# Altium schematic symbol library Smart Smoke Detector.SchLib: 28 symbols
Pins are listed as number, name and electrical type; pins without a type are passive.

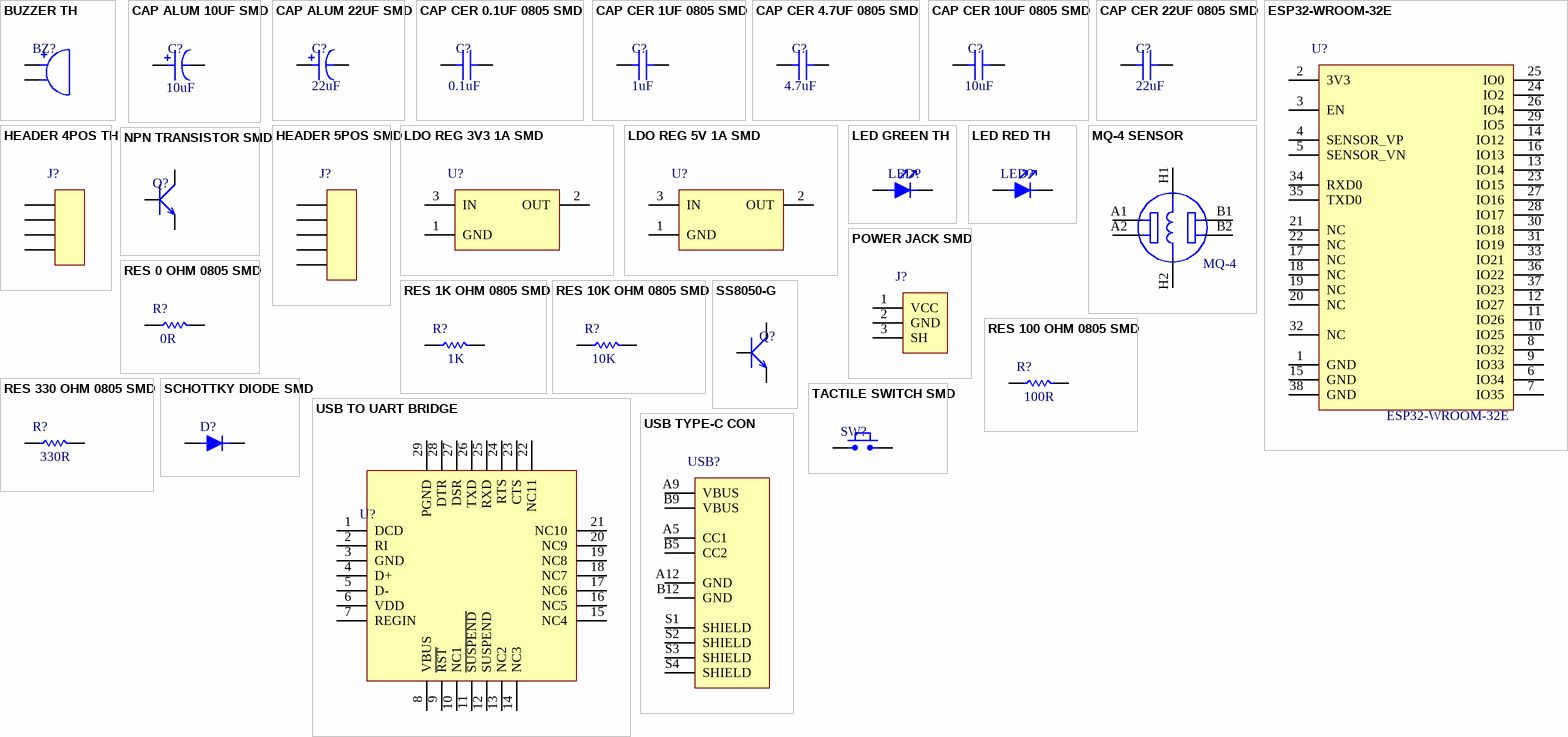
[diagram p0: symbols BUZZER TH to USB TYPE-C CON]

## BUZZER TH
designator BZ?, comment AI-1223-TWT-3V-2-R  (value not drawn)
BUZZER MAGNETIC 3V 12MM TH
footprint BUZZER
pins: 1, 2

## CAP ALUM 10UF SMD
designator C?, comment value 10uF  (hidden comment: 875105359001)
CAP ALUM 10UF 20% 16V SMD
footprint CAP ALUM 10UF
pins: 1, 2

## CAP ALUM 22UF SMD
designator C?, comment value 22uF  (hidden comment: A766EB226M1DLAE060)
CAP ALUM 22UF 20% 20V SMD
footprint CAP ALUM 22UF
pins: 1, 2

## CAP CER 0.1UF 0805 SMD
designator C?, comment value 0.1uF  (hidden comment: CC0805KRX7R9BB104)
CAP CER 0.1UF 50V X7R 0805
footprint CAP 0805
pins: 1, 2

## CAP CER 1UF 0805 SMD
designator C?, comment value 1uF  (hidden comment: CC0805KKX7R9BB105)
CAP CER 1UF 50V X7R 0805
footprint CAP 0805
pins: 1, 2

## CAP CER 4.7UF 0805 SMD
designator C?, comment value 4.7uF  (hidden comment: CC0805KKX5R9BB475)
CAP CER 4.7UF 50V X5R 0805
footprint CAP 0805
pins: 1, 2

## CAP CER 10UF 0805 SMD
designator C?, comment value 10uF  (hidden comment: CC0805KKX5R8BB106)
CAP CER 10UF 25V X5R 0805
footprint CAP 0805
pins: 1, 2

## CAP CER 22UF 0805 SMD
designator C?, comment value 22uF  (hidden comment: CC0805MKX5R8BB226)
CAP CER 22UF 25V X5R 0805
footprint CAP 0805
pins: 1, 2

## ESP32-WROOM-32E
designator U?, comment value ESP32-WROOM-32E  (hidden comment: ESP32-WROOM-32E-H4)
RF TXRX MOD BT WIFI TH SMD
footprint ESP32
pins: 1 GND, 2 3V3, 3 EN, 4 SENSOR_VP, 5 SENSOR_VN, 6 IO34, 7 IO35, 8 IO32, 9 IO33, 10 IO25, 11 IO26, 12 IO27, 13 IO14, 14 IO12, 15 GND, 16 IO13, 17 NC, 18 NC, 19 NC, 20 NC, 21 NC, 22 NC, 23 IO15, 24 IO2, 25 IO0, 26 IO4, 27 IO16, 28 IO17, 29 IO5, 30 IO18, 31 IO19, 32 NC, 33 IO21, 34 RXD0, 35 TXD0, 36 IO22, 37 IO23, 38 GND

## HEADER 4POS TH
designator J?, comment 61300411121  (value not drawn)
MALE HEADER 4POS 2.54MM
footprint HEADER
pins: 1, 2, 3, 4

## HEADER 5POS SMD
designator J?, comment SMH-105-02-L-S  (value not drawn)
FEMALE HEADER 5POS 2.54MM
footprint SMD HEADER
pins: 1, 2, 3, 4, 5

## LDO REG 3V3 1A SMD
designator U?, comment AMS1117-3.3  (value not drawn)
IC LDO REG 3.3V 1A SOT223
footprint SOT-223
pins: 1 GND, 2 OUT, 3 IN

## LDO REG 5V 1A SMD
designator U?, comment AMS1117-5.0  (value not drawn)
IC LDO REG 5V 1A SOT223
footprint SOT-223
pins: 1 GND, 2 OUT, 3 IN

## LED GREEN TH
designator LED?, comment 151031VS06000  (value not drawn)
LED GREEN 3MM ROUND TH
footprint GREEN LED
pins: 1, 2

## LED RED TH
designator LED?, comment 151031SS06000  (value not drawn)
LED RED 3MM ROUND TH
footprint RED LED
pins: 1, 2

## MQ-4 SENSOR
designator GAS?, comment value MQ-4  (hidden comment: SEN-09404)
SENSOR METHANE 2.5V-4 V OUTPUT
footprint MQ-4
pins: A1, A2, B1, B2, H1, H2

## NPN TRANSISTOR SMD
designator Q?, comment MMBT3904-7-F  (value not drawn)
TRANS NPN 40V 0.2A SOT23-3
footprint SOT-23-3
pins: 1, 2, 3

## POWER JACK SMD
designator J?, comment PJ-036BH-SMT-TR  (value not drawn)
PWR JACK 2.5X5.5MM SOLDER
footprint POWER JACK
pins: 1 VCC, 2 GND, 3 SH

## RES 0 OHM 0805 SMD
designator R?, comment value 0R  (hidden comment: RC0805JR-070RL)
RES 0 OHM JUMPER 1/8W 0805
footprint RES 0805
pins: 1, 2

## RES 1K OHM 0805 SMD
designator R?, comment value 1K  (hidden comment: RC0805FR-071KL)
RES 1K OHM 1% 1/8W 0805
footprint RES 0805
pins: 1, 2

## RES 10K OHM 0805 SMD
designator R?, comment value 10K  (hidden comment: ERJ-6GEYJ103V)
RES 10K OHM 5% 1/8W 0805
footprint RES 0805
pins: 1, 2

## RES 100 OHM 0805 SMD
designator R?, comment value 100R  (hidden comment: RMCF0805FT100R)
RES 100 OHM 1% 1/8W 0805
footprint RES 0805
pins: 1, 2

## RES 330 OHM 0805 SMD
designator R?, comment value 330R  (hidden comment: RC0805FR-07330RL)
RES 330 OHM 1% 1/8W 0805
footprint RES 0805
pins: 1, 2

## SCHOTTKY DIODE SMD
designator D?, comment 1N5819W  (value not drawn)
DIODE SCHOTTKY 40V 1A SOD-123F
footprint SOD-123F
pins: 1, 2

## SS8050-G
designator Q?  (value not drawn)
TRANS NPN 25V 1.5A SOT23-3
footprint SOT-23-3
pins: 1, 2, 3

## TACTILE SWITCH SMD
designator SW?, comment PTS636 SK25F SMTR LFS  (value not drawn)
SWITCH TACTILE 0.05A 12V
footprint TACTILE SWITCH
pins: 1, 2

## USB TO UART BRIDGE
designator U?, comment CP2102N-A02-GQFN28  (value not drawn)
IC USB TO UART BRIDGE QFN28
footprint QFN-28
pins: 1 DCD, 2 RI, 3 GND, 4 D+, 5 D-, 6 VDD, 7 REGIN, 8 VBUS, 9 ~{RST}, 10 NC1, 11 ~{SUSPEND}, 12 SUSPEND, 13 NC2, 14 NC3, 15 NC4, 16 NC5, 17 NC6, 18 NC7, 19 NC8, 20 NC9, 21 NC10, 22 NC11, 23 CTS, 24 RTS, 25 RXD, 26 TXD, 27 DSR, 28 DTR, 29 PGND

## USB TYPE-C CON
designator USB?, comment USB4125-GF-A  (value not drawn)
CONN RCPT TYPE C 6P SMD RA
footprint USB TYPE-C
pins: A5 CC1, A9 VBUS, A12 GND, B5 CC2, B9 VBUS, B12 GND, S1 SHIELD, S2 SHIELD, S3 SHIELD, S4 SHIELD